# EAGLE library part 62404021622 (library WR-WTB)
WR-WTB 2.00 mm Male Dual Row Vertical Shrouded Header w. positive locking Material Properties Insulator Material PA66 Insulator Flammability Rating UL94 V-0 Color White Contact Material Copper Alloy Contact Plating Tin Contact Type Stamped Certification UL Approval E323964 General Information Operating Temperature -25 °C up to +85 °C Compliance RoHS IR 3 A Working Voltage 250 V (AC) Withstanding Voltage 1000 V (AC) Contact Resistance 20 mΩ RISO 1000 MΩ Pitch 2 mm Gender Male Type Vertical Packaging Properties Packaging Tube Details see: www.we-online.com/en/components/products/WTB_2_00_MALE_DUAL_ROW_VERTICAL_SHROUDED_HEADER_W_POSITIVE_LOCKING_6240XX21622 Updated by Ella 2025-07-24 2025 (C) Würth Elektronik
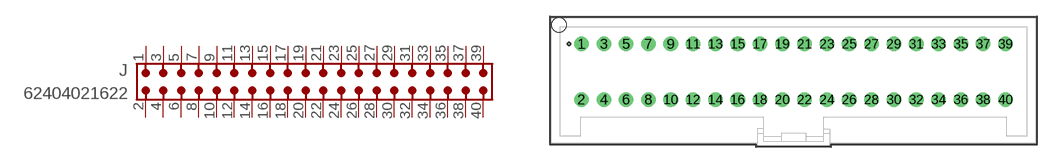
[diagram p88: symbol with the pads of 62404021622; footprint 62404021622]

Designator prefix J

## 62404021622 (CONTACT-RESISTANCE: 20mOhm; DATASHEET: https://www.we-online.com/redexpert/spec/62404021622?ae; GENDER: Male; IR: 3A; L: 43.4mm; MOUNT: THT; PACKAGING: Tube; PART-NUMBER: 62404021622; PCB-CABLE-PANEL: PCB; PINS: 40; PITCH: 2mm; TYPE: Vertical; VALUE: 62404021622; WORKING-VOLTAGE: 250V(AC))  [62404021622]
1  1  pas
2  2  pas
3  3  pas
4  4  pas
5  5  pas
6  6  pas
7  7  pas
8  8  pas
9  9  pas
10  10  pas
11  11  pas
12  12  pas
13  13  pas
14  14  pas
15  15  pas
16  16  pas
17  17  pas
18  18  pas
19  19  pas
20  20  pas
21  21  pas
22  22  pas
23  23  pas
24  24  pas
25  25  pas
26  26  pas
27  27  pas
28  28  pas
29  29  pas
30  30  pas
31  31  pas
32  32  pas
33  33  pas
34  34  pas
35  35  pas
36  36  pas
37  37  pas
38  38  pas
39  39  pas
40  40  pas

## Footprint 62404021622 (pad centres in mm)
WR-WTB 2.00 mm Male Dual Row Vertical Shrouded Header w. positive locking,40 Pins
drill 0.8: 1 -19,3.3; 2 -19,-1.7; 3 -17,3.3; 4 -17,-1.7; 5 -15,3.3; 6 -15,-1.7; 7 -13,3.3; 8 -13,-1.7; 9 -11,3.3; 10 -11,-1.7; 11 -9,3.3; 12 -9,-1.7; 13 -7,3.3; 14 -7,-1.7; 15 -5,3.3; 16 -5,-1.7; 17 -3,3.3; 18 -3,-1.7; 19 -1,3.3; 20 -1,-1.7; 21 1,3.3; 22 1,-1.7; 23 3,3.3; 24 3,-1.7; 25 5,3.3; 26 5,-1.7; 27 7,3.3; 28 7,-1.7; 29 9,3.3; 30 9,-1.7; 31 11,3.3; 32 11,-1.7; 33 13,3.3; 34 13,-1.7; 35 15,3.3; 36 15,-1.7; 37 17,3.3; 38 17,-1.7; 39 19,3.3; 40 19,-1.7
hole 1.3 at -21,5